# Altium schematic symbol library electronic_dc_load_v1.SchLib: 53 symbols (part 2 of 2)
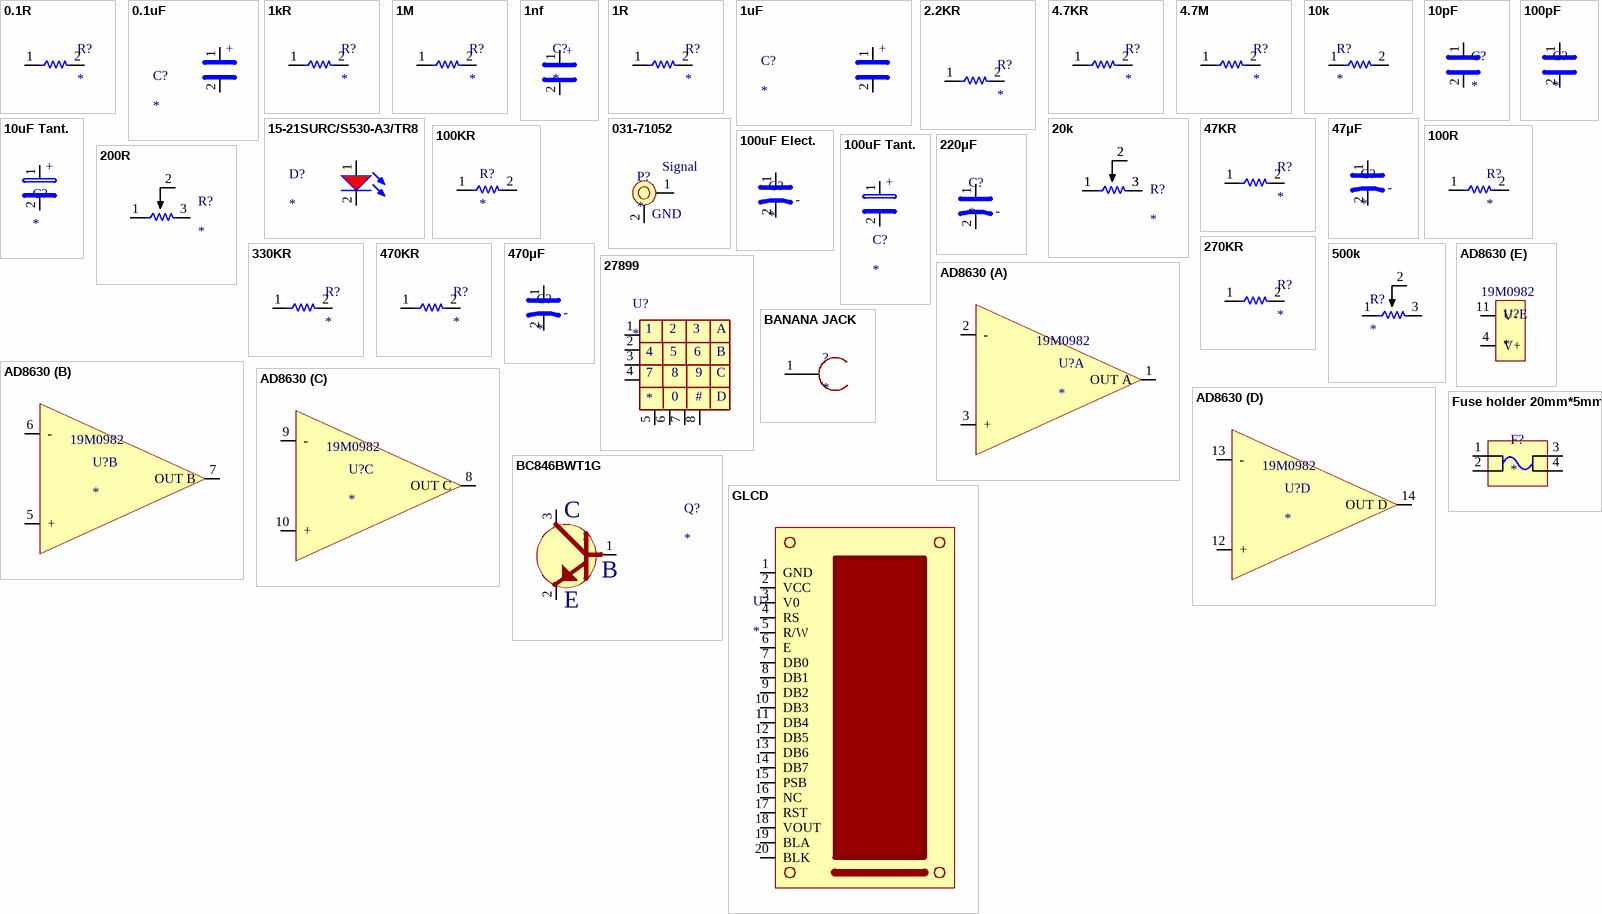
[diagram p2: symbols 0.1R to GLCD]

## BC846BWT1G
designator Q?
ON SEMICONDUCTOR - BC846BWT1G - Bipolar (BJT) Single Transistor, General Purpose, NPN, 65 V, 100 MHz, 150 mW, 100 mA, 100 hFE; Max Power Dissipation: 150mW; Number of Elements: 1; Frequency: 100MHz; Collector Emitter Voltage (VCEO): 65V; Max Collector Current: 100mA; Collector Base Voltage (VCBO): 80V; Emitter Base Voltage (VEBO): 6V; Collector Emitter Saturation Voltage: 600mV; hFE Min: 150; Supplier 1: Digi-Key; Manufacturer: ON Semiconductor; Manufacturer Part Number: BC846BWT1G; RoHS: Yes; Category: BJTs; Stock 1: 15423; Pricing 1: 1=0.14000, 10=0.13200, 25=0.12600, 100=0.07200, 500=0.04430, 1000=0.03021 (USD); Case/Package: SC; Number of Pins: 3; Contact Plating: Tin,Matte; Min Operating Temperature: -55°C; Max Operating Temperature: 150°C; Package Quantity: 1; Packaging: Tape and Reel; Transition Frequency: 100MHz; Collector Emitter Breakdown Voltage: 65V; Max Breakdown Voltage: 65V; Polarity: NPN; Power Dissipation: 150mW; Element Configuration: Single; Gain Bandwidth Product: 100MHz; Series: -; Collector-emitter Voltage-Max: 600mV; Max Frequency: 100MHz; Voltage Rating (DC): 65V; Current Rating: 100mA; Length: 2.2mm; Width: 1.35mm; Height: 0.9mm; Radiation Hardening: No; REACH SVHC: No SVHC; Lead Free: Lead Free; Halogen Free: Halogen Free; RoHS Compliant: Yes; ComponentLink1URL: https://datasheet.ciiva.com/1261/bc846awt1-d-1261088.pdf?src-supplier=Newark; ComponentLink1Description: https://datasheet.ciiva.com/1261/bc846awt1-d-1261088.pdf?src-supplier=Newark; ComponentLink2URL: https://datasheet.ciiva.com/30480/0900766b812769a2-30480624.pdf?src-supplier=RSComponents; ComponentLink2Description: https://datasheet.ciiva.com/30480/0900766b812769a2-30480624.pdf?src-supplier=RSComponents; ComponentLink3URL: https://datasheet.ciiva.com/15139/getdatasheetpartid-110048-15139274.pdf?src-supplier=Verical; ComponentLink3Description: https://datasheet.ciiva.com/15139/getdatasheetpartid-110048-15139274.pdf?src-supplier=Verical; ComponentLink4URL: https://datasheet.ciiva.com/976/bc846awt1-d-976449.pdf?src-supplier=Digi-Key; ComponentLink4Description: https://datasheet.ciiva.com/976/bc846awt1-d-976449.pdf?src-supplier=Digi-Key; ComponentLink5URL: https://datasheet.ciiva.com/976/bc846awt1-d-976450.pdf?src-supplier=Digi-Key; ComponentLink5Description: https://datasheet.ciiva.com/976/bc846awt1-d-976450.pdf?src-supplier=Digi-Key; ComponentLink6URL: https://datasheet.ciiva.com/976/bc846awt1-d-976451.pdf?src-supplier=Digi-Key; ComponentLink6Description: https://datasheet.ciiva.com/976/bc846awt1-d-976451.pdf?src-supplier=Digi-Key; ComponentLink7URL: https://datasheet.ciiva.com/11204/bc846awt1-d-11204342.pdf?src-supplier=Avnet; ComponentLink7Description: https://datasheet.ciiva.com/11204/bc846awt1-d-11204342.pdf?src-supplier=Avnet; ComponentLink8URL: https://datasheet.ciiva.com/11197/bc846awt1-d-11197543.pdf?src-supplier=Avnet; ComponentLink8Description: https://datasheet.ciiva.com/11197/bc846awt1-d-11197543.pdf?src-supplier=Avnet; ComponentLink9URL: https://datasheet.ciiva.com/25996/bc846awt1-d-25996743.pdf?src-supplier=Avnet+Europe; ComponentLink9Description: https://datasheet.ciiva.com/25996/bc846awt1-d-25996743.pdf?src-supplier=Avnet+Europe; ComponentLink10URL: https://datasheet.ciiva.com/22664/1907697-22664107.pdf?src-supplier=Element14; ComponentLink10Description: https://datasheet.ciiva.com/22664/1907697-22664107.pdf?src-supplier=Element14; Supplier Part Number 1: BC846BWT1GOSCT-ND
footprint SOT65P245X110-3N (SOT23, 3-Leads, Body 2.00x2.45mm, Pitch 0.65mm, IPC Medium Density)
pins: 1 (power), 2 (power), 3 (power)
text: C; B; E

## Fuse holder 20mm*5mm
designator F?
footprint Fuse holder 5mm*20mm
pins: 1, 2, 3, 4

## GLCD
designator U?
Grapghic LCD based  on st7920  controller  128x64
footprint 20 PIN- 2.54mm
pins: 1 GND (power), 2 VCC (power), 3 V0 (power), 4 RS (power), 5 R/W (power), 6 E (power), 7 DB0 (power), 8 DB1 (power), 9 DB2 (power), 10 DB3 (power), 11 DB4 (power), 12 DB5 (power), 13 DB6 (power), 14 DB7 (power), 15 PSB (power), 16 NC (power), 17 RST (power), 18 VOUT (power), 19 BLA (power), 20 BLK (power)

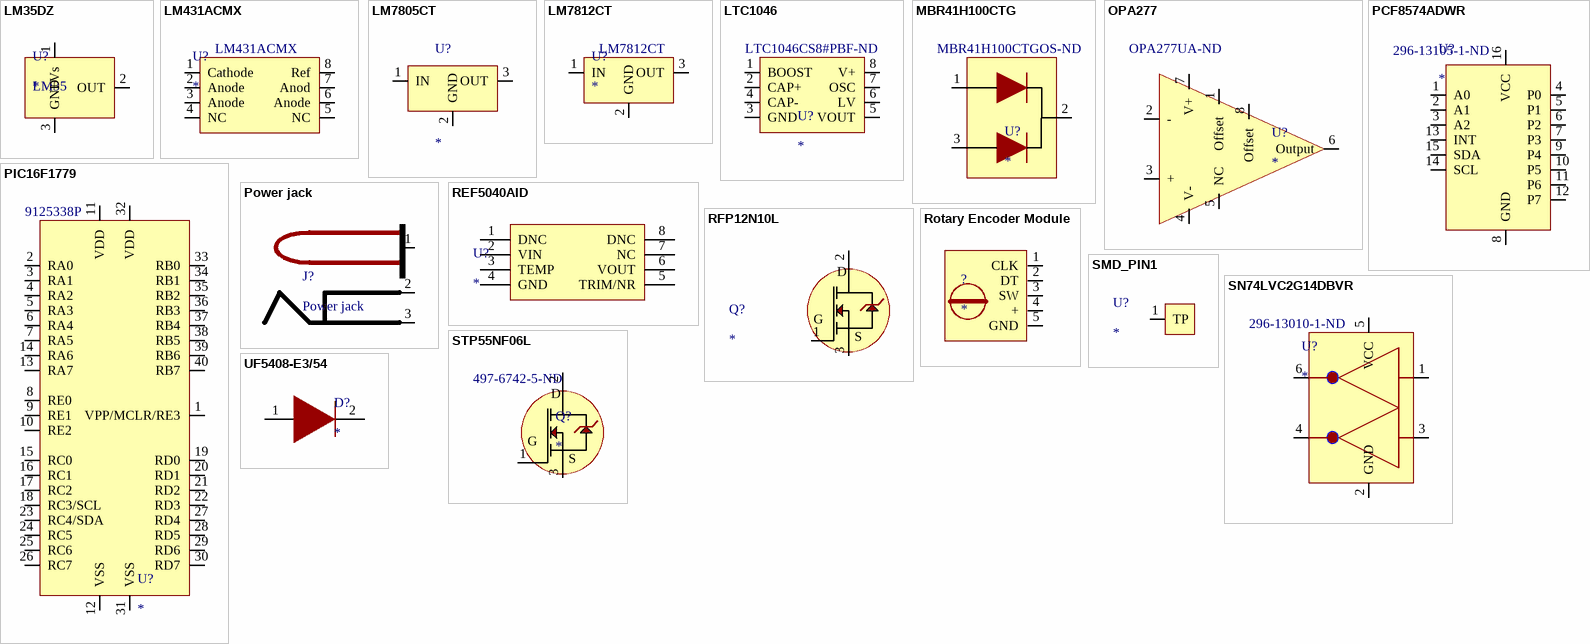
[diagram p1: symbols LM35DZ to UF5408-E3/54]

## LM35DZ
designator U?
TEXAS INSTRUMENTS         LM35DZ            Temperature Sensor IC, Voltage,  0.4C, +2 C, +100 C, TO-92, 3 Pins; Manufacturer: TI National Semiconductor; Min Supply Voltage: 4V; Max Supply Voltage: 30V; Interface: Serial,2-Wire; Output Type: Analog; Quiescent Current: 56uA; Output Current: 10mA; Nominal Supply Current: 91.5uA; Operating Supply Current: 80uA; Output Voltage: 6V; Supplier 1: Newark; Manufacturer Part Number: LM35DZ; RoHS: No; Category: Temperature and Humidity Sensors; Mount: Through Hole; Case/Package: TO-92; Number of Pins: 3; Min Operating Temperature: 0°C; Max Operating Temperature: 100°C; Packaging: Bulk; Series: LM35; Max Supply Voltage (DC): 30V; Min Supply Voltage (DC): 4V; Supply Current: 91.5uA; Length: 5.2mm; Width: 4.19mm; Height: 5.2mm; Lead Free: Contains Lead; RoHS Compliant: No; REACH SVHC: No SVHC; ComponentLink1URL: https://datasheet.ciiva.com/27746/82-1000e-27746599.pdf?src-supplier=Rapid+Electronics; ComponentLink1Description: https://datasheet.ciiva.com/27746/82-1000e-27746599.pdf?src-supplier=Rapid+Electronics; ComponentLink2URL: https://datasheet.ciiva.com/1166/1896190-1166283.pdf?src-supplier=Element14; ComponentLink2Description: https://datasheet.ciiva.com/1166/1896190-1166283.pdf?src-supplier=Element14; Supplier Part Number 1: 92F288
footprint TO-220-3
pins: 1 +Vs (power), 2 OUT (power), 3 GND (power)

## LM431ACMX
designator U?  Supplier Part Number 1: LM431ACMX
V-Ref Adjustable 2.5V to 36V 100mA 8-Pin SOP T/R; Manufacturer: ON Semiconductor / Fairchild; Number of Channels: 1; Tolerance: 2%; Temperature Coefficient: 50ppm/°C; Cathode Current: 1mA; Reference Type: Shunt,Adjustable; Supplier 1: Avnet; Manufacturer Part Number: LM431ACMX; RoHS: Yes; Category: Voltage References; Stock 1: 40099; Mount: Surface Mount; Case/Package: SOP; Number of Pins: 8; Weight: 0.2304g; Min Operating Temperature: -25°C; Max Operating Temperature: 85°C; Max Input Voltage: 36V; Packaging: Tape and Reel; Package Quantity: 3000; Output Voltage: 36V; Max Output Current: 100mA; Max Output Voltage: 36V; Output Current: 100mA; Current Rating: 100mA; Series: -; Min Output Voltage: 2.5V; Output Type: Adjustable; RoHS Compliant: Yes; Lead Free: Lead Free; ComponentLink1URL: https://datasheet.ciiva.com/4908/lm431a-189989-4908452.pdf?src-supplier=Mouser; ComponentLink1Description: https://datasheet.ciiva.com/4908/lm431a-189989-4908452.pdf?src-supplier=Mouser; ComponentLink2URL: https://datasheet.ciiva.com/29571/lm431a-29571926.pdf?src-supplier=Digi-Key; ComponentLink2Description: https://datasheet.ciiva.com/29571/lm431a-29571926.pdf?src-supplier=Digi-Key; ComponentLink3URL: https://datasheet.ciiva.com/29571/lm431a-29571925.pdf?src-supplier=Digi-Key; ComponentLink3Description: https://datasheet.ciiva.com/29571/lm431a-29571925.pdf?src-supplier=Digi-Key; ComponentLink4URL: https://datasheet.ciiva.com/9215/lm431c-9215048.pdf?src-supplier=Avnet; ComponentLink4Description: https://datasheet.ciiva.com/9215/lm431c-9215048.pdf?src-supplier=Avnet
footprint SOIC127P600X265-8L (SOIC, 8-Leads, Body 4.90x3.90mm, Pitch 1.27mm, IPC High Density)
pins: 1 Cathode (power), 2 Anode (power), 3 Anode (power), 4 NC (power), 5 NC (power), 6 Anode (power), 7 Anod (power), 8 Ref (power)

## LM7805CT
designator U?
Standard Regulator Pos 5V 2.2A 3-Pin(3+Tab) TO-220AB Rail; Manufacturer: ON Semiconductor / Fairchild; Manufacturer Part Number: LM7805CT; Quiescent Current: 8mA; Dropout Voltage: 2V; Number of Outputs: 1; Output Current: 1A; Output Type: Fixed; Max Input Voltage: 35V; Polarity: Positive; Min Input Voltage: 7V; Accuracy: 4%; Power Supply Rejection Ratio (PSRR): 73dB; Max Output Voltage: 5.2V; RoHS: Yes; Category: Voltage Regulators - Linear; Stock 1: 9559; Pricing 1: 331=1.02898, 340=1.02141, 670=1.01384, 1700=1.00628, 3400=0.99871, 17000=0.99115, 34000=0.98358 (USD); Mount: Through Hole; Case/Package: TO-220-3; Number of Pins: 3; Weight: 1.214g; Min Operating Temperature: -40°C; Max Operating Temperature: 125°C; Output Voltage: 5V; Packaging: Rail/Tube; Package Quantity: 50; Max Output Current: 1A; Number of Regulators: 1; Output Voltage Accuracy: 4%; Current Rating: 1A; Nominal Output Voltage: 5V; Min Output Voltage: 5V; Length: 10.67mm; Width: 4.7mm; Height: 16.3mm; Radiation Hardening: No; RoHS Compliant: Yes; Lead Free: Lead Free; REACH SVHC: No SVHC; ComponentLink1URL: https://datasheet.ciiva.com/19456/786138-19456361.pdf?src-supplier=Jameco; ComponentLink1Description: https://datasheet.ciiva.com/19456/786138-19456361.pdf?src-supplier=Jameco; ComponentLink2URL: https://datasheet.ciiva.com/26904/lm7805ct-26904988.pdf?src-supplier=IIIC; ComponentLink2Description: https://datasheet.ciiva.com/26904/lm7805ct-26904988.pdf?src-supplier=IIIC; ComponentLink3URL: https://datasheet.ciiva.com/2039/lm7805-2039365.pdf?src-supplier=Digi-Key; ComponentLink3Description: https://datasheet.ciiva.com/2039/lm7805-2039365.pdf?src-supplier=Digi-Key; ComponentLink4URL: https://datasheet.ciiva.com/8239/lm7812-8239478.pdf?src-supplier=Avnet; ComponentLink4Description: https://datasheet.ciiva.com/8239/lm7812-8239478.pdf?src-supplier=Avnet; ComponentLink5URL: https://datasheet.ciiva.com/1512/1855686-1512106.pdf?src-supplier=Element14; ComponentLink5Description: https://datasheet.ciiva.com/1512/1855686-1512106.pdf?src-supplier=Element14; ComponentLink6URL: https://datasheet.ciiva.com/17332/lm7805-17332792.pdf?src-supplier=Future+Electronics; ComponentLink6Description: https://datasheet.ciiva.com/17332/lm7805-17332792.pdf?src-supplier=Future+Electronics; ComponentLink7URL: https://datasheet.ciiva.com/1512/1855686-1512105.pdf?src-supplier=Element14; ComponentLink7Description: https://datasheet.ciiva.com/1512/1855686-1512105.pdf?src-supplier=Element14; ComponentLink8URL: https://datasheet.ciiva.com/1511/1855686-1511835.pdf?src-supplier=Element14; ComponentLink8Description: https://datasheet.ciiva.com/1511/1855686-1511835.pdf?src-supplier=Element14; ComponentLink9URL: https://datasheet.ciiva.com/48694/001253095-da-01-en-ic-reg-ldo-5v-1a-lm7805ct-to-220-3-fsc-48694790.pdf?src-supplier=Conrad; ComponentLink9Description: https://datasheet.ciiva.com/48694/001253095-da-01-en-ic-reg-ldo-5v-1a-lm7805ct-to-220-3-fsc-48694790.pdf?src-supplier=Conrad; Supplier Part Number 1: LM7805CT; Supplier 1: Avnet
footprint TO-220-3
pins: 1 IN (power), 2 GND (power), 3 OUT (power)

## LM7812CT
designator U?  Supplier Part Number 1: LM7812CT
Fairchild Semiconductor; Manufacturer: ON Semiconductor / Fairchild; Dropout Voltage: 2V; Quiescent Current: 8mA; Number of Outputs: 1; Max Input Voltage: 35V; Max Output Current: 1A; Output Voltage: 12V; Polarity: Positive; Accuracy: 4%; Output Type: Fixed; Min Input Voltage: 14.5V; Power Supply Rejection Ratio (PSRR): 71dB; Supplier 1: Avnet; Manufacturer Part Number: LM7812CT; RoHS: Yes; Category: Voltage Regulators - Linear; Stock 1: 6000; Mount: Through Hole; Case/Package: TO-220-3; Number of Pins: 3; Weight: 1.214g; Contact Plating: Tin,Matte; Min Operating Temperature: -40°C; Max Operating Temperature: 125°C; Output Current: 1A; Packaging: Rail/Tube; Package Quantity: 50; Number of Regulators: 1; Output Voltage Accuracy: 4%; Nominal Output Voltage: 12V; Min Output Voltage: 12V; Length: 10.16mm; Width: 4.7mm; Height: 8.89mm; Radiation Hardening: No; Lead Free: Lead Free; RoHS Compliant: Yes; REACH SVHC: No SVHC; ComponentLink1URL: https://datasheet.ciiva.com/26908/lm7812ct-26908840.pdf?src-supplier=IIIC; ComponentLink1Description: https://datasheet.ciiva.com/26908/lm7812ct-26908840.pdf?src-supplier=IIIC; ComponentLink2URL: https://datasheet.ciiva.com/2039/lm7805-2039371.pdf?src-supplier=Digi-Key; ComponentLink2Description: https://datasheet.ciiva.com/2039/lm7805-2039371.pdf?src-supplier=Digi-Key; ComponentLink3URL: https://datasheet.ciiva.com/25974/lm7812-25974492.pdf?src-supplier=Avnet+Europe; ComponentLink3Description: https://datasheet.ciiva.com/25974/lm7812-25974492.pdf?src-supplier=Avnet+Europe
footprint TO-220-3
pins: 1 IN (power), 2 GND (power), 3 OUT (power)

## LTC1046
designator U?  Supplier Part Number 1: LTC1046CS8#PBF-ND
LINEAR TECHNOLOGY - LTC1046CS8#PBF - VOLT CONVERTER, SMD, SOIC8, 1046; Manufacturer: Analog Devices / Linear Technology; Number of Outputs: 1; Output Voltage: 3V; Output Current: 50mA; Synchronous Rectifier: No; Min Input Voltage: 1.5V; Switching Frequency: 30kHz; Max Input Voltage: 6V; Operating Supply Current: 165uA; Output Type: Adjustable; Min Output Voltage: -6V; Max Output Voltage: -1.5V; Supplier 1: Digi-Key; Manufacturer Part Number: LTC1046CS8#PBF; RoHS: Yes; Category: Voltage Regulators - Switching; Stock 1: 46; Pricing 1: 1=6.96000, 10=6.29000, 25=5.99760, 100=5.20760, 250=4.97352, 500=4.53468, 1000=4.14000 (USD); Case/Package: SOIC; Number of Pins: 8; Min Operating Temperature: 0°C; Max Operating Temperature: 70°C; Packaging: Cut Tape; Package Quantity: 100; Series: -; Max Output Current: 50mA; Max Supply Voltage: 6V; Min Supply Voltage: 1.5V; Length: 5mm; Width: 3.988mm; Height: 1.498mm; Radiation Hardening: No; RoHS Compliant: Yes; Lead Free: Lead Free; REACH SVHC: No SVHC; ComponentLink1URL: https://datasheet.ciiva.com/2024/2898-2024864.pdf?src-supplier=Digi-Key; ComponentLink1Description: https://datasheet.ciiva.com/2024/2898-2024864.pdf?src-supplier=Digi-Key; ComponentLink2URL: https://datasheet.ciiva.com/30477/0900766b8125257c-30477616.pdf?src-supplier=RSComponents; ComponentLink2Description: https://datasheet.ciiva.com/30477/0900766b8125257c-30477616.pdf?src-supplier=RSComponents; ComponentLink3URL: https://datasheet.ciiva.com/15114/getdatasheetpartid-135603-15114038.pdf?src-supplier=Verical; ComponentLink3Description: https://datasheet.ciiva.com/15114/getdatasheetpartid-135603-15114038.pdf?src-supplier=Verical; ComponentLink4URL: https://datasheet.ciiva.com/19474/1745629-19474318.pdf?src-supplier=Jameco; ComponentLink4Description: https://datasheet.ciiva.com/19474/1745629-19474318.pdf?src-supplier=Jameco; ComponentLink5URL: https://datasheet.ciiva.com/26898/ltc1046cs8-pbf-26898654.pdf?src-supplier=IIIC; ComponentLink5Description: https://datasheet.ciiva.com/26898/ltc1046cs8-pbf-26898654.pdf?src-supplier=IIIC; ComponentLink6URL: https://datasheet.ciiva.com/6185/1573420-6185372.pdf?src-supplier=Farnell; ComponentLink6Description: https://datasheet.ciiva.com/6185/1573420-6185372.pdf?src-supplier=Farnell
footprint SOIC127P600X265-8L (SOIC, 8-Leads, Body 4.90x3.90mm, Pitch 1.27mm, IPC High Density)
pins: 1 BOOST (power), 2 CAP+ (power), 3 GND (power), 4 CAP- (power), 5 VOUT (power), 6 LV (power), 7 OSC (power), 8 V+ (power)

## MBR41H100CTG
designator U?  Supplier Part Number 1: MBR41H100CTGOS-ND
DIODE ARRAY SCHOTTKY 100V TO220; Manufacturer: ON Semiconductor; Manufacturer Part Number: MBR41H100CTG; Forward Current: 20A; Max Reverse Current: 10uA; Max Surge Current: 350A; Forward Voltage: 900mV; Element Configuration: Common Cathode; Supplier 1: Digi-Key; RoHS: Yes; Category: Schottky Diodes; Stock 1: 220; Pricing 1: 1=2.14000, 10=1.92400, 100=1.54640, 500=1.27050, 1000=1.05270, 2000=0.99000 (USD); Case/Package: TO-220-3; Number of Pins: 3; Min Operating Temperature: -65°C; Max Operating Temperature: 175°C; Package Quantity: 50; Packaging: Rail/Tube; Average Rectified Current: 20A; Max Reverse Leakage Current: 10uA; Max Repetitive Reverse Voltage (Vrrm): 100V; Peak Non-Repetitive Surge Current: 350A; Max Forward Surge Current (Ifsm): 350A; Current Rating: 20A; Voltage Rating (DC): 100V; Max Reverse Voltage (DC): 100V; Series: SWITCHMODE™; Length: 10.28mm; Width: 4.82mm; Height: 15.75mm; Radiation Hardening: No; REACH SVHC: No SVHC; Lead Free: Lead Free; RoHS Compliant: Yes; ComponentLink1URL: https://datasheet.ciiva.com/908/mbr41h100ct-d-908465.pdf?src-supplier=Avnet; ComponentLink1Description: https://datasheet.ciiva.com/908/mbr41h100ct-d-908465.pdf?src-supplier=Avnet; ComponentLink2URL: https://datasheet.ciiva.com/30479/0900766b812212ba-30479299.pdf?src-supplier=RSComponents; ComponentLink2Description: https://datasheet.ciiva.com/30479/0900766b812212ba-30479299.pdf?src-supplier=RSComponents; ComponentLink3URL: https://datasheet.ciiva.com/7962/mbr41h100ct-d-7962757.pdf?src-supplier=Element14; ComponentLink3Description: https://datasheet.ciiva.com/7962/mbr41h100ct-d-7962757.pdf?src-supplier=Element14; ComponentLink4URL: https://datasheet.ciiva.com/16362/mbr41h100ct-d-16362069.pdf?src-supplier=Future+Electronics; ComponentLink4Description: https://datasheet.ciiva.com/16362/mbr41h100ct-d-16362069.pdf?src-supplier=Future+Electronics; ComponentLink5URL: https://datasheet.ciiva.com/908/mbr41h100ct-d-908438.pdf?src-supplier=Digi-Key; ComponentLink5Description: https://datasheet.ciiva.com/908/mbr41h100ct-d-908438.pdf?src-supplier=Digi-Key
footprint TO-220-3
pins: 1, 2, 3

## OPA277
designator U?  Supplier Part Number 1: OPA277UA-ND
Operational Amplifier Single 1 MHz SO-8, OPA277UA, Texas Instruments; Voltage Gain: 140dB; Nominal Supply Current: 825uA; Common Mode Rejection Ratio: 115dB; Number of Channels: 1; Slew Rate: 0.8V/µs; Input Offset Voltage (Vos): 20uV; Min Dual Supply Voltage: 2V; Max Dual Supply Voltage: 18V; Bandwidth: 1MHz; Input Bias Current: 2.8nA; Operating Supply Current: 790uA; Output Current per Channel: 35mA; Max I/O Voltage: 50uV; Dual Supply Voltage: 9V; Supplier 1: Digi-Key; Manufacturer: Texas Instruments; Manufacturer Part Number: OPA277UA; RoHS: Yes; Category: Amplifiers - Op Amps, Buffer, Instrumentation; Stock 1: 3292; Pricing 1: 1=3.72000, 10=3.34300, 25=3.16000, 100=2.73880, 250=2.59832, 500=2.33148, 1000=2.21275 (USD); Case/Package: D; Number of Pins: 8; Contact Plating: Gold; Min Operating Temperature: -40°C; Max Operating Temperature: 85°C; Package Quantity: 75; Packaging: Rail/Tube; Number of Circuits: 1; Gain Bandwidth Product: 1MHz; Number of Elements: 1; Unity Gain Bandwidth Product: 1MHz; Nominal Gain Bandwidth Product: 1MHz; Max Supply Voltage: 18V; Number of Amplifiers: 1; Length: 4.9mm; Width: 3.91mm; Height: 1.58mm; Radiation Hardening: No; Lead Free: Lead Free; RoHS Compliant: Yes; REACH SVHC: No SVHC; ComponentLink1URL: https://datasheet.ciiva.com/2973/opa4277-2973984.pdf?src-supplier=Avnet; ComponentLink1Description: https://datasheet.ciiva.com/2973/opa4277-2973984.pdf?src-supplier=Avnet; ComponentLink2URL: https://datasheet.ciiva.com/1799/opa277-1799267.pdf?src-supplier=Digi-Key; ComponentLink2Description: https://datasheet.ciiva.com/1799/opa277-1799267.pdf?src-supplier=Digi-Key; ComponentLink3URL: https://datasheet.ciiva.com/7738/1830880-7738390.pdf?src-supplier=Element14; ComponentLink3Description: https://datasheet.ciiva.com/7738/1830880-7738390.pdf?src-supplier=Element14; ComponentLink4URL: https://datasheet.ciiva.com/26243/opa4277-26243593.pdf?src-supplier=Avnet+Europe; ComponentLink4Description: https://datasheet.ciiva.com/26243/opa4277-26243593.pdf?src-supplier=Avnet+Europe
footprint SOIC127P600X265-8L (SOIC, 8-Leads, Body 4.90x3.90mm, Pitch 1.27mm, IPC High Density)
pins: 1 Offset  (power), 2 - (power), 3 + (power), 4 V- (power), 5 NC (power), 6 Output (power), 7 V+ (power), 8 Offset (power)

## PCF8574ADWR
designator U?  Supplier Part Number 1: 296-13105-1-ND
I2C GPIO Expander 6V 16-Pin SOIC T/R; Manufacturer: Texas Instruments; Manufacturer Part Number: PCF8574ADWR; Number of I/Os: 8; Frequency: 100kHz; Min Supply Voltage: 2.5V; Supplier 1: Digi-Key; RoHS: Yes; Category: Interface ICs; Stock 1: 5886; Pricing 1: 1=1.72000, 10=1.54200, 25=1.46320, 100=1.20190, 250=1.12356, 500=0.99290, 1000=0.82331 (USD); Case/Package: SOIC; Number of Pins: 16; Weight: 0.014829oz; Contact Plating: Gold; Min Operating Temperature: -40°C; Max Operating Temperature: 85°C; Package Quantity: 1; Packaging: Tape and Reel; Max Frequency: 100kHz; Series: -; Number of Outputs: 8; Max Supply Voltage: 6V; Number of Bits: 8; Termination: SMD/SMT; Lead Free: Lead Free; RoHS Compliant: Yes; REACH SVHC: No SVHC; ComponentLink1URL: https://datasheet.ciiva.com/1780/pcf8574a-1780193.pdf?src-supplier=Digi-Key; ComponentLink1Description: https://datasheet.ciiva.com/1780/pcf8574a-1780193.pdf?src-supplier=Digi-Key; ComponentLink2URL: https://datasheet.ciiva.com/1780/pcf8574a-1780194.pdf?src-supplier=Digi-Key; ComponentLink2Description: https://datasheet.ciiva.com/1780/pcf8574a-1780194.pdf?src-supplier=Digi-Key; ComponentLink3URL: https://datasheet.ciiva.com/1780/pcf8574a-1780195.pdf?src-supplier=Digi-Key; ComponentLink3Description: https://datasheet.ciiva.com/1780/pcf8574a-1780195.pdf?src-supplier=Digi-Key; ComponentLink4URL: https://datasheet.ciiva.com/3149/pcf8574a-3149367.pdf?src-supplier=Avnet; ComponentLink4Description: https://datasheet.ciiva.com/3149/pcf8574a-3149367.pdf?src-supplier=Avnet; ComponentLink5URL: https://datasheet.ciiva.com/46411/1768199-46411463.pdf?src-supplier=Element14; ComponentLink5Description: https://datasheet.ciiva.com/46411/1768199-46411463.pdf?src-supplier=Element14; ComponentLink6URL: https://datasheet.ciiva.com/3148/pcf8574a-3148520.pdf?src-supplier=Avnet; ComponentLink6Description: https://datasheet.ciiva.com/3148/pcf8574a-3148520.pdf?src-supplier=Avnet
footprint SOIC127P1650X265-16L (SOIC, 16-Leads, Body 10.30x7.50mm, Pitch 1.27mm, IPC High Density)
pins: 1 A0 (power), 2 A1 (power), 3 A2 (power), 4 P0 (power), 5 P1 (power), 6 P2 (power), 7 P3 (power), 8 GND (power), 9 P4 (power), 10 P5 (power), 11 P6 (power), 12 P7 (power), 13 INT (power), 14 SCL (power), 15 SDA (power), 16 VCC (power)

## PIC16F1779
designator U?  Supplier Part Number 1: 9125338P
IC MCU 8BIT 28KB FLASH 44TQFP; Manufacturer: Microchip; Manufacturer Part Number: PIC16F1779-I/PT; Frequency: 32MHz; Interface: I2C,SPI,UART,USART,LIN; Number of I/Os: 36; Oscillator Type: Internal; Peripherals: Brown-out Detect/Reset,POR,PWM,WDT; Core Architecture: PIC; RAM Size: 2KB; Min Supply Voltage: 2.3V; Max Supply Voltage: 5.5V; Supplier 1: RSComponents; RoHS: Yes; Category: Microcontrollers; Stock 1: 232; Pricing 1: 10=3.22200, 24=3.14200, 100=3.06100 (USD); Case/Package: TQFP; Number of Pins: 44; Min Operating Temperature: -40°C; Max Operating Temperature: 85°C; Memory Type: FLASH; Memory Size: 28KB; Packaging: Tray; RoHS Compliant: Yes; REACH SVHC: No SVHC; ComponentLink1URL: http://www.farnell.com/datasheets/2245186.pdf?src-supplier=Farnell; ComponentLink1Description: http://www.farnell.com/datasheets/2245186.pdf?src-supplier=Farnell; ComponentLink2URL: http://www.mouser.com/ds/2/268/40001819B-1066584.pdf?src-supplier=Mouser; ComponentLink2Description: http://www.mouser.com/ds/2/268/40001819B-1066584.pdf?src-supplier=Mouser; ComponentLink3URL: http://www.microchip.com/mymicrochip/filehandler.aspx?ddocname=en584356&src-supplier=Digi-Key; ComponentLink3Description: http://www.microchip.com/mymicrochip/filehandler.aspx?ddocname=en584356&src-supplier=Digi-Key; ComponentLink4URL: http://www.farnell.com/datasheets/1993941.pdf?src-supplier=Element14; ComponentLink4Description: http://www.farnell.com/datasheets/1993941.pdf?src-supplier=Element14
footprint DIP40 - duplicate
pins: 1 VPP/MCLR/RE3 (power), 2 RA0 (power), 3 RA1 (power), 4 RA2 (power), 5 RA3 (power), 6 RA4 (power), 7 RA5 (power), 8 RE0 (power), 9 RE1 (power), 10 RE2 (power), 11 VDD (power), 12 VSS (power), 13 RA7 (power), 14 RA6 (power), 15 RC0 (power), 16 RC1 (power), 17 RC2 (power), 18 RC3/SCL (power), 19 RD0 (power), 20 RD1 (power), 21 RD2 (power), 22 RD3 (power), 23 RC4/SDA (power), 24 RC5 (power), 25 RC6 (power), 26 RC7 (power), 27 RD4 (power), 28 RD5 (power), 29 RD6 (power), 30 RD7 (power), 31 VSS (power), 32 VDD (power), 33 RB0 (power), 34 RB1 (power), 35 RB2 (power), 36 RB3 (power), 37 RB4 (power), 38 RB5 (power), 39 RB6 (power), 40 RB7 (power)

## Power jack
designator J?
KLDHCX-0202-AC-1; Manufacturer: Kycon; Supplier 1: Digi-Key; Manufacturer Part Number: KLDHCX-0202-AC-1; RoHS: No; Stock 1: 484; Pricing 1: 1=0.82000, 10=0.71900, 25=0.67680, 50=0.64860, 100=0.62040, 250=0.56400, 500=0.50760, 1000=0.45120, 2500=0.40890 (USD); Supplier Part Number 1: 2092-KLDHCX-0202-AC-1-ND
footprint DC jack (KLDHCX-0202-AC-1)
pins: 1 (power), 2 (power), 3 (power)

## REF5040AID
designator U?
IC VREF SERIES 4.096V 8SOIC; Manufacturer: Texas Instruments; Manufacturer Part Number: REF5040AID; Max Input Voltage: 18V; Max Output Current: 10mA; Min Input Voltage: 4.296V; Tolerance: 0.1%; Temperature Coefficient: 3ppm/°C; Quiescent Current: 1mA; Reference Type: Series,Fixed; Number of Channels: 1; Operating Supply Current: 800uA; Operating Supply Voltage: 24V; Supplier 1: Mouser; RoHS: Yes; Category: Voltage References; Stock 1: 277; Pricing 1: 1=4.08000, 10=3.67000, 50=3.47000, 100=3.47000, 1000=3.47000, 10000=3.47000 (USD); Case/Package: D; Number of Pins: 8; Weight: 0.002677oz; Min Operating Temperature: -40°C; Max Operating Temperature: 125°C; Output Voltage: 4.096V; Packaging: Rail/Tube; Package Quantity: 75; Output Current: 10mA; Max Output Voltage: 4.096V; Reference Voltage: 4.096V; Length: 5mm; Width: 4mm; Height: 1.5mm; Radiation Hardening: No; Lead Free: Lead Free; RoHS Compliant: Yes; REACH SVHC: No SVHC; ComponentLink1URL: https://datasheet.ciiva.com/2007/ref5020-2007515.pdf?src-supplier=Digi-Key; ComponentLink1Description: https://datasheet.ciiva.com/2007/ref5020-2007515.pdf?src-supplier=Digi-Key; ComponentLink2URL: https://datasheet.ciiva.com/3235/ref5050-3235581.pdf?src-supplier=Avnet; ComponentLink2Description: https://datasheet.ciiva.com/3235/ref5050-3235581.pdf?src-supplier=Avnet; Supplier Part Number 1: 595-REF5040AID
footprint SOIC127P600X265-8L (SOIC, 8-Leads, Body 4.90x3.90mm, Pitch 1.27mm, IPC High Density)
pins: 1 DNC (power), 2 VIN (power), 3 TEMP (power), 4 GND (power), 5 TRIM/NR (power), 6 VOUT (power), 7 NC (power), 8 DNC (power)

## RFP12N10L
designator Q?
Trans MOSFET N-CH 100V 12A 3-Pin(3+Tab) TO-220AB Rail; Manufacturer: ON Semiconductor / Fairchild; Manufacturer Part Number: RFP12N10L; Power Dissipation: 60W; Fall Time: 80ns; Drain to Source Resistance: 200mR; Gate to Source Voltage (Vgs): 10V; Rise Time: 70ns; Number of Elements: 1; Element Configuration: Single; Turn-Off Delay Time: 100ns; Turn-On Delay Time: 15ns; Threshold Voltage: 2V; Input Capacitance: 900pF; Supplier 1: Digi-Key; RoHS: Yes; Category: MOSFETs; Stock 1: 24034; Pricing 1: 1=1.14000, 10=1.01500, 25=0.96360, 100=0.79140, 500=0.65376, 1000=0.51612, 2500=0.48171, 5000=0.46920 (USD); Mount: Through Hole; Case/Package: TO-220AB; Number of Pins: 3; Weight: 0.01lb; Min Operating Temperature: -55°C; Max Operating Temperature: 150°C; Packaging: Rail/Tube; Continuous Drain Current (ID): 12A; Drain to Source Breakdown Voltage: 100V; Max Power Dissipation: 60W; Drain to Source Voltage (Vdss): 100V; Voltage Rating (DC): 100V; Package Quantity: 50; On-State Resistance: 200mR; Number of Channels: 1; Current Rating: 12A; Rds On Max: 200mR; Current: 12A; Voltage: 100V; Length: 10.67mm; Width: 4.83mm; Height: 9.4mm; Radiation Hardening: No; Lead Free: Lead Free; REACH SVHC: No SVHC; ComponentLink1URL: https://datasheet.ciiva.com/4441/rfp12n10l-100355-4441731.pdf?src-supplier=Mouser; ComponentLink1Description: https://datasheet.ciiva.com/4441/rfp12n10l-100355-4441731.pdf?src-supplier=Mouser; ComponentLink2URL: https://datasheet.ciiva.com/15137/getdatasheetpartid-72694-15137365.pdf?src-supplier=Verical; ComponentLink2Description: https://datasheet.ciiva.com/15137/getdatasheetpartid-72694-15137365.pdf?src-supplier=Verical; ComponentLink3URL: https://datasheet.ciiva.com/27051/1071214-27051352.pdf?src-supplier=Jameco; ComponentLink3Description: https://datasheet.ciiva.com/27051/1071214-27051352.pdf?src-supplier=Jameco; ComponentLink4URL: https://datasheet.ciiva.com/14092/ge611164-e-14092043.pdf?src-supplier=Distrelec; ComponentLink4Description: https://datasheet.ciiva.com/14092/ge611164-e-14092043.pdf?src-supplier=Distrelec; ComponentLink5URL: https://datasheet.ciiva.com/25625/0900766b8002df0e-25625304.pdf?src-supplier=RSComponents; ComponentLink5Description: https://datasheet.ciiva.com/25625/0900766b8002df0e-25625304.pdf?src-supplier=RSComponents; ComponentLink6URL: https://datasheet.ciiva.com/19459/787798-19459499.pdf?src-supplier=Jameco; ComponentLink6Description: https://datasheet.ciiva.com/19459/787798-19459499.pdf?src-supplier=Jameco; Supplier Part Number 1: RFP12N10L-ND
footprint TO-220-3
pins: 1 G (power), 2, 3
text: D; S

## Rotary Encoder Module
designator ?
footprint 5 PIN-2.54mm
pins: 1 CLK, 2 DT, 3 SW, 4 +, 5 GND

## SMD_PIN1
designator U?
footprint TP_SMD
pins: 1 TP (power)

## SN74LVC2G14DBVR
designator U?  Supplier Part Number 1: 296-13010-1-ND
INVERTER SCHMITT TRIGGER, SOT-23-6, FULL REEL; Logic Type:Inverter Schmitt Trigger; Output Current:32mA; No. of Inputs:1; Supply Voltage Min:1.65V; Supply Voltage Max:5.5V; Logic Case Style:SOT-23; No. of Pins:6; Family Type:LVC ;RoHS Compliant: Yes; Manufacturer: Texas Instruments; Manufacturer Part Number: SN74LVC2G14DBVR; Number of Inputs: 1; Propagation Delay: 9.5ns; Max Supply Voltage: 5.5V; Min Supply Voltage: 1.65V; Output Current: 32mA; Logic Function: Buffer,Inverter,Inverting,Schmitt Trigger; Number of Elements: 2; Quiescent Current: 10uA; High Level Output Current: -32mA; Turn-On Delay Time: 4.3ns; Supplier 1: Digi-Key; RoHS: Yes; Category: Logic Gates; Stock 1: 686; Pricing 1: 1=0.43000, 10=0.32300, 25=0.29160, 100=0.20140, 250=0.16960, 500=0.13780, 1000=0.10600 (USD); Mount: Surface Mount; Case/Package: SOT-23; Number of Pins: 6; Weight: 0.000557oz; Contact Plating: Tin,Matte; Min Operating Temperature: -40°C; Max Operating Temperature: 125°C; Package Quantity: 3000; Packaging: Tape and Reel; Max Output Current: 32mA; Number of Circuits: 2; Low Level Output Current: 32mA; Termination: SMD/SMT; Number of Gates: 2; Number of Bits: 2; Schmitt Trigger Input: Yes; Length: 2.9mm; Width: 1.6mm; Height: 1.15mm; Radiation Hardening: No; REACH SVHC: No SVHC; Lead Free: Lead Free; RoHS Compliant: Yes; ComponentLink1URL: https://datasheet.ciiva.com/4827/sn74lvc2g14-50958-4827361.pdf?src-supplier=Mouser; ComponentLink1Description: https://datasheet.ciiva.com/4827/sn74lvc2g14-50958-4827361.pdf?src-supplier=Mouser; ComponentLink2URL: https://datasheet.ciiva.com/28540/1772571-28540805.pdf?src-supplier=Element14; ComponentLink2Description: https://datasheet.ciiva.com/28540/1772571-28540805.pdf?src-supplier=Element14; ComponentLink3URL: https://datasheet.ciiva.com/15089/getdatasheetpartid-44147-15089068.pdf?src-supplier=Verical; ComponentLink3Description: https://datasheet.ciiva.com/15089/getdatasheetpartid-44147-15089068.pdf?src-supplier=Verical; ComponentLink4URL: https://datasheet.ciiva.com/34301/1046238-34301917.pdf?src-supplier=Jameco; ComponentLink4Description: https://datasheet.ciiva.com/34301/1046238-34301917.pdf?src-supplier=Jameco; ComponentLink5URL: https://datasheet.ciiva.com/1864/sn74lvc2g14-1864305.pdf?src-supplier=Digi-Key; ComponentLink5Description: https://datasheet.ciiva.com/1864/sn74lvc2g14-1864305.pdf?src-supplier=Digi-Key; ComponentLink6URL: https://datasheet.ciiva.com/1864/sn74lvc2g14-1864306.pdf?src-supplier=Digi-Key; ComponentLink6Description: https://datasheet.ciiva.com/1864/sn74lvc2g14-1864306.pdf?src-supplier=Digi-Key; ComponentLink7URL: https://datasheet.ciiva.com/1864/sn74lvc2g14-1864307.pdf?src-supplier=Digi-Key; ComponentLink7Description: https://datasheet.ciiva.com/1864/sn74lvc2g14-1864307.pdf?src-supplier=Digi-Key; ComponentLink8URL: https://datasheet.ciiva.com/14288/sn74lvc2g14-14288309.pdf?src-supplier=Avnet; ComponentLink8Description: https://datasheet.ciiva.com/14288/sn74lvc2g14-14288309.pdf?src-supplier=Avnet; ComponentLink9URL: https://datasheet.ciiva.com/26042/sn74lvc2g14-26042406.pdf?src-supplier=Avnet+Europe; ComponentLink9Description: https://datasheet.ciiva.com/26042/sn74lvc2g14-26042406.pdf?src-supplier=Avnet+Europe; ComponentLink10URL: https://datasheet.ciiva.com/7783/1768119-7783611.pdf?src-supplier=Element14; ComponentLink10Description: https://datasheet.ciiva.com/7783/1768119-7783611.pdf?src-supplier=Element14; ComponentLink11URL: https://datasheet.ciiva.com/7783/1768119-7783612.pdf?src-supplier=Element14; ComponentLink11Description: https://datasheet.ciiva.com/7783/1768119-7783612.pdf?src-supplier=Element14
footprint SOT95P245X110-6N (SOT23, 6-Leads, Body 2.90x2.45mm, Pitch 0.95mm, IPC Medium Density)
pins: 1, 2 GND, 3, 4, 5 VCC, 6

## STP55NF06L
designator Q?  Supplier Part Number 1: 497-6742-5-ND
POWER MOSFET; Manufacturer: STMicroelectronics; Manufacturer Part Number: STP55NF06L; Rise Time: 100ns; Continuous Drain Current (ID): 55A; Turn-Off Delay Time: 40ns; Turn-On Delay Time: 20ns; Gate to Source Voltage (Vgs): 16V; Rds On Max: 18mR; Input Capacitance: 1.7nF; Number of Elements: 1; Max Power Dissipation: 95W; Nominal Vgs: 1.7V; Drain to Source Voltage (Vdss): 60V; Drain to Source Resistance: 14mR; Element Configuration: Single; Polarity: N-CHANNEL; Supplier 1: Digi-Key; RoHS: Yes; Category: MOSFETs; Stock 1: 1903; Pricing 1: 1=1.73000, 10=1.55200, 25=1.46440, 100=1.24760, 500=1.02506, 1000=0.93188 (USD); Mount: Through Hole; Case/Package: TO-220; Number of Pins: 3; Weight: 0.01lb; Min Operating Temperature: -55°C; Max Operating Temperature: 175°C; Package Quantity: 50; Packaging: Rail/Tube; Drain to Source Breakdown Voltage: 60V; Fall Time: 20ns; Power Dissipation: 95W; Threshold Voltage: 1.7V; Voltage Rating (DC): 60V; Current Rating: 55A; On-State Resistance: 18mR; Series: STripFET™; Drain-source On Resistance-Max: 18mR; Length: 10.4mm; Width: 4.6mm; Height: 9.15mm; Radiation Hardening: No; RoHS Compliant: Yes; REACH SVHC: No SVHC; Lead Free: Lead Free; ComponentLink1URL: https://datasheet.ciiva.com/938/cd00002690-938896.pdf?src-supplier=Digi-Key; ComponentLink1Description: https://datasheet.ciiva.com/938/cd00002690-938896.pdf?src-supplier=Digi-Key; ComponentLink2URL: https://datasheet.ciiva.com/22655/129279-22655977.pdf?src-supplier=Element14; ComponentLink2Description: https://datasheet.ciiva.com/22655/129279-22655977.pdf?src-supplier=Element14; ComponentLink3URL: https://datasheet.ciiva.com/16286/cd00002690-16286844.pdf?src-supplier=Future+Electronics; ComponentLink3Description: https://datasheet.ciiva.com/16286/cd00002690-16286844.pdf?src-supplier=Future+Electronics
footprint TO-220-3
pins: 1 G (power), 2, 3
text: D; S

## UF5408-E3/54
designator D?
DIODE GEN PURP 1KV 3A DO201AD; Manufacturer: Vishay Semiconductors; Manufacturer Part Number: UF5408-E3/54; Max Reverse Current: 10uA; Max Surge Current: 150A; Forward Voltage: 1.7V; Recovery Time: 75ns; Element Configuration: Single; Polarity: Standard; Capacitance: 36pF; Outside Diameter: 5.3mm; Supplier 1: Newark; RoHS: Yes; Category: Rectifier Diodes; Stock 1: 16111; Pricing 1: 1=0.57400, 10=0.44000, 25=0.40500, 50=0.37000, 100=0.33500, 250=0.30900, 500=0.28200 (USD); Mount: Through Hole,Axial; Case/Package: DO-201AD; Number of Pins: 2; Min Operating Temperature: -55°C; Max Operating Temperature: 150°C; Packaging: Tape and Reel; Package Quantity: 1; Forward Current: 3A; Average Rectified Current: 3A; Reverse Recovery Time: 75ns; Max Repetitive Reverse Voltage (Vrrm): 1kV; Peak Non-Repetitive Surge Current: 150A; Max Forward Surge Current (Ifsm): 150A; Reverse Voltage: 1kV; Max Reverse Voltage (DC): 1kV; Series: -; Termination: Axial; Output Current: 3A; Reverse Recovery Time-Max: 75ns; Length: 9.5mm; Width: 5.3mm; Height: 5.3mm; Radiation Hardening: No; REACH SVHC: Unknown; RoHS Compliant: Yes; Lead Free: Lead Free; ComponentLink1URL: https://datasheet.ciiva.com/23642/1756403-23642241.pdf?src-supplier=Newark; ComponentLink1Description: https://datasheet.ciiva.com/23642/1756403-23642241.pdf?src-supplier=Newark; ComponentLink2URL: https://datasheet.ciiva.com/26295/47793-26295170.pdf?src-supplier=Element14; ComponentLink2Description: https://datasheet.ciiva.com/26295/47793-26295170.pdf?src-supplier=Element14; ComponentLink3URL: https://datasheet.ciiva.com/22724/1771191-22724859.pdf?src-supplier=Element14; ComponentLink3Description: https://datasheet.ciiva.com/22724/1771191-22724859.pdf?src-supplier=Element14; ComponentLink4URL: https://datasheet.ciiva.com/4245/uf5400-4245215.pdf?src-supplier=Arrow+Electronics; ComponentLink4Description: https://datasheet.ciiva.com/4245/uf5400-4245215.pdf?src-supplier=Arrow+Electronics; Supplier Part Number 1: 05R5930
pins: 1 3 (power), 2 (power)